# Altium footprint library pass_comp.PcbLib: 11 footprints
Each footprint in its own frame and in the unit in brackets; x right, y up, seen from the top. Pads: shape width x height; smd on the part's side, far side on the other; paste and mask are expansions set on the pad; w line width, h text height; cw(c..) or ccw(c..) is an arc to the next point about the centre after c.
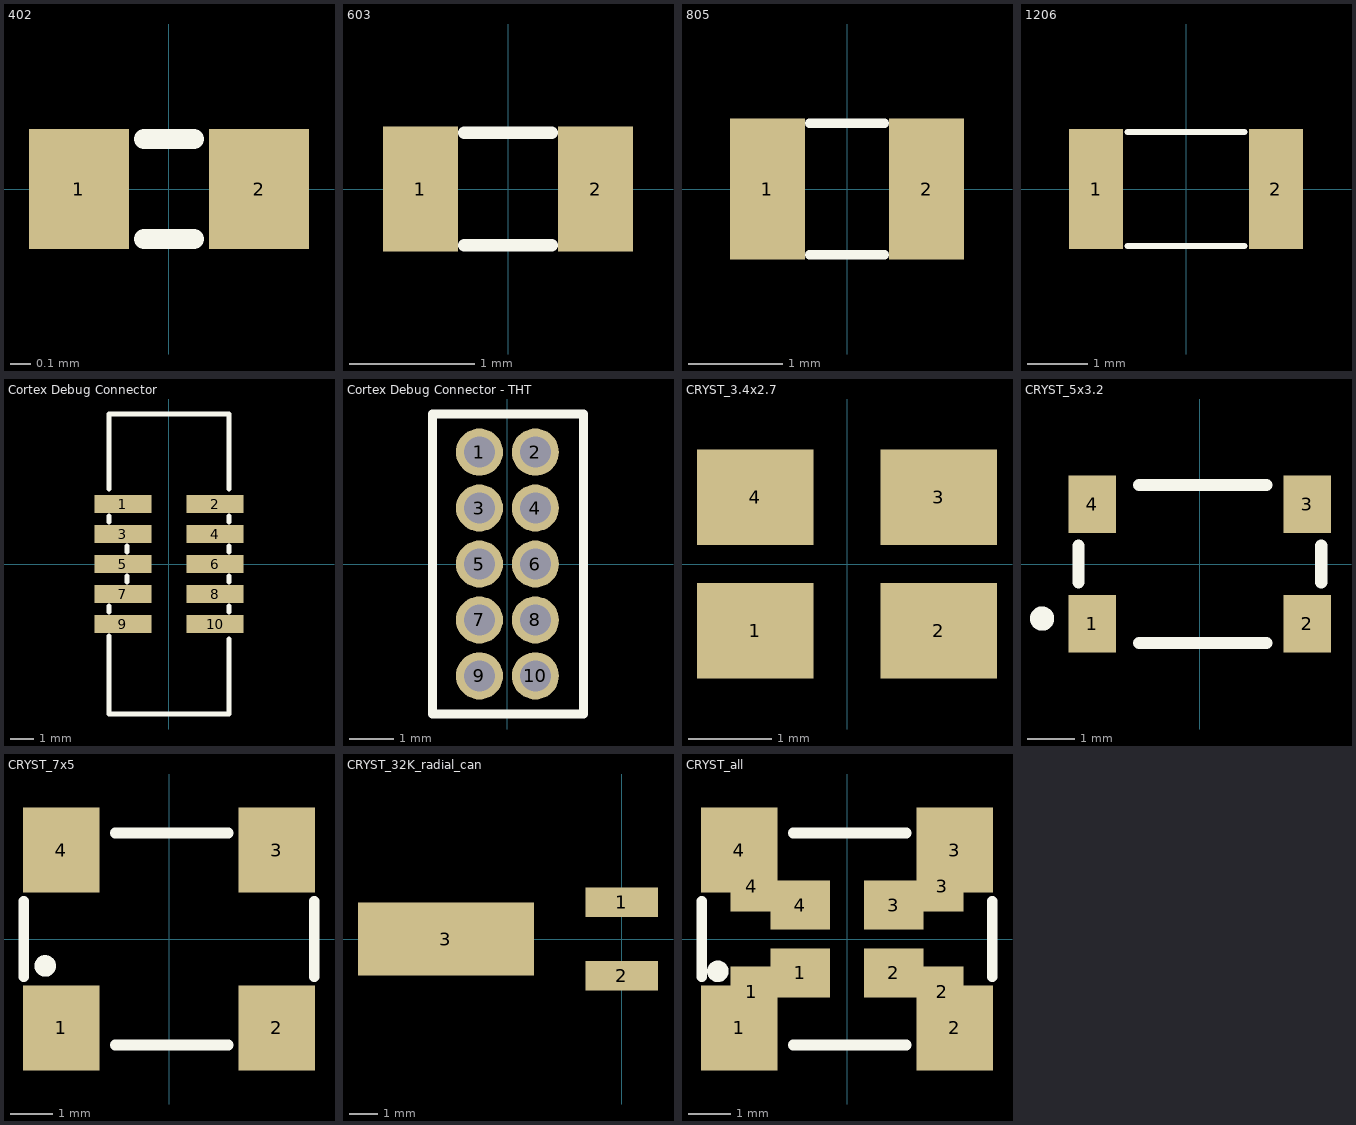
[diagram p0: the footprints below, top view; thin cyan lines are the x and y axes]

## 402 [mm]
pads (2):
  rect 0.5x0.6 smd: 1(-0.45,0) 2(0.45,0)
Top Overlay:
  lines w0.1: -0.125,-0.25 0.125,-0.25 ; -0.125,0.25 0.125,0.25

## 603 [mm]
pads (2):
  rect 0.6x1 smd: 1(-0.7,0) 2(0.7,0)
Top Overlay:
  lines w0.1: -0.35,-0.45 0.35,-0.45 ; -0.35,0.45 0.35,0.45

## 805 [mm]
pads (2):
  rect 0.8x1.5 smd: 1(-0.85,0) 2(0.85,0)
Top Overlay:
  lines w0.1: -0.4,-0.7 0.4,-0.7 ; -0.4,0.7 0.4,0.7

## 1206 [mm]
pads (2):
  rect 0.9x2 smd: 1(-1.5,0) 2(1.5,0)
Top Overlay:
  lines w0.1: -0.975,-0.95 0.975,-0.95 ; -0.975,0.95 0.975,0.95

## Cortex Debug Connector [mm]
pads (10):
  rect 2.4x0.76 smd: 1(-1.95,2.54) 2(1.95,2.54) 3(-1.95,1.27) 4(1.95,1.27) 5(-1.95,0) 6(1.95,0) 7(-1.95,-1.27) 8(1.95,-1.27) 9(-1.95,-2.54) 10(1.95,-2.54)
Top Overlay:
  lines w0.2: -2.54,-3.048 -2.54,-6.35 2.54,-6.35 2.54,-3.175 ; -2.54,-2.032 -2.54,-1.778 ; -2.54,1.778 -2.54,2.032 ; -2.54,3.175 -2.54,6.35 2.54,6.35 2.54,3.175 ; -1.778,-0.762 -1.778,-0.508 ; -1.778,0.508 -1.778,0.762 ; 2.54,-2.032 2.54,-1.778 ; 2.54,-0.762 2.54,-0.508 ; 2.54,0.508 2.54,0.762 ; 2.54,1.778 2.54,2.032

## Cortex Debug Connector - THT [mm]
pads (10):
  round 1.067 hole 0.7: 1(-0.635,2.54) 2(0.635,2.54) 3(-0.635,1.27) 4(0.635,1.27) 5(-0.635,0) 6(0.635,0) 7(-0.635,-1.27) 8(0.635,-1.27) 9(-0.635,-2.54) 10(0.635,-2.54)
Top Overlay:
  lines w0.2: -1.702,-3.404 -1.702,3.404 1.727,3.404 1.727,-3.404 -1.702,-3.404

## CRYST_3.4x2.7 [mm]
pads (4):
  rect 1.4x1.15 smd: 1(-1.1,-0.8) 2(1.1,-0.8) 3(1.1,0.8) 4(-1.1,0.8)

## CRYST_5x3.2 [mm]
pads (4):
  rect 1x1.2 smd: 1(-2.25,-1.25) 2(2.25,-1.25) 3(2.25,1.25) 4(-2.25,1.25)
Top Overlay:
  circle w0.254: c-3.302,-1.143 r0.127
  lines w0.254: -2.54,-0.381 -2.54,0.381 ; -1.27,-1.651 1.397,-1.651 ; -1.27,1.651 1.397,1.651 ; 2.54,-0.381 2.54,0.381

## CRYST_7x5 [mm]
pads (4):
  rect 1.8x2 smd: 1(-2.54,-2.1) 2(2.54,-2.1) 3(2.54,2.1) 4(-2.54,2.1)
Top Overlay:
  circle w0.254: c-2.921,-0.635 r0.127
  lines w0.254: -3.429,-0.889 -3.429,0.889 ; -1.27,-2.5 1.397,-2.5 ; -1.27,2.5 1.397,2.5 ; 3.429,-0.889 3.429,0.889

## CRYST_32K_radial_can [mil]
pads (3):
  rect 99x40 smd: 1(0,50) 2(0,-50)
  rect 240x99 smd: 3(-240,0)

## CRYST_all [mm]
pads (12):
  rect 1.8x2 smd: 1(-2.54,-2.1) 2(2.54,-2.1) 3(2.54,2.1) 4(-2.54,2.1)
  rect 1x1.2 smd: 1(-2.25,-1.25) 2(2.25,-1.25) 3(2.25,1.25) 4(-2.25,1.25)
  rect 1.4x1.15 smd: 1(-1.1,-0.8) 2(1.1,-0.8) 3(1.1,0.8) 4(-1.1,0.8)
Top Overlay:
  circle w0.254: c-3.048,-0.762 r0.127
  lines w0.254: -3.429,-0.889 -3.429,0.889 ; -1.27,-2.5 1.397,-2.5 ; -1.27,2.5 1.397,2.5 ; 3.429,-0.889 3.429,0.889